# Altium footprint library RP3_V302.PcbLib: 39 footprints (part 2 of 3)
Each footprint in its own frame and in the unit in brackets; x right, y up, seen from the top. Pads: shape width x height; smd on the part's side, far side on the other; paste and mask are expansions set on the pad; w line width, h text height; cw(c..) or ccw(c..) is an arc to the next point about the centre after c.
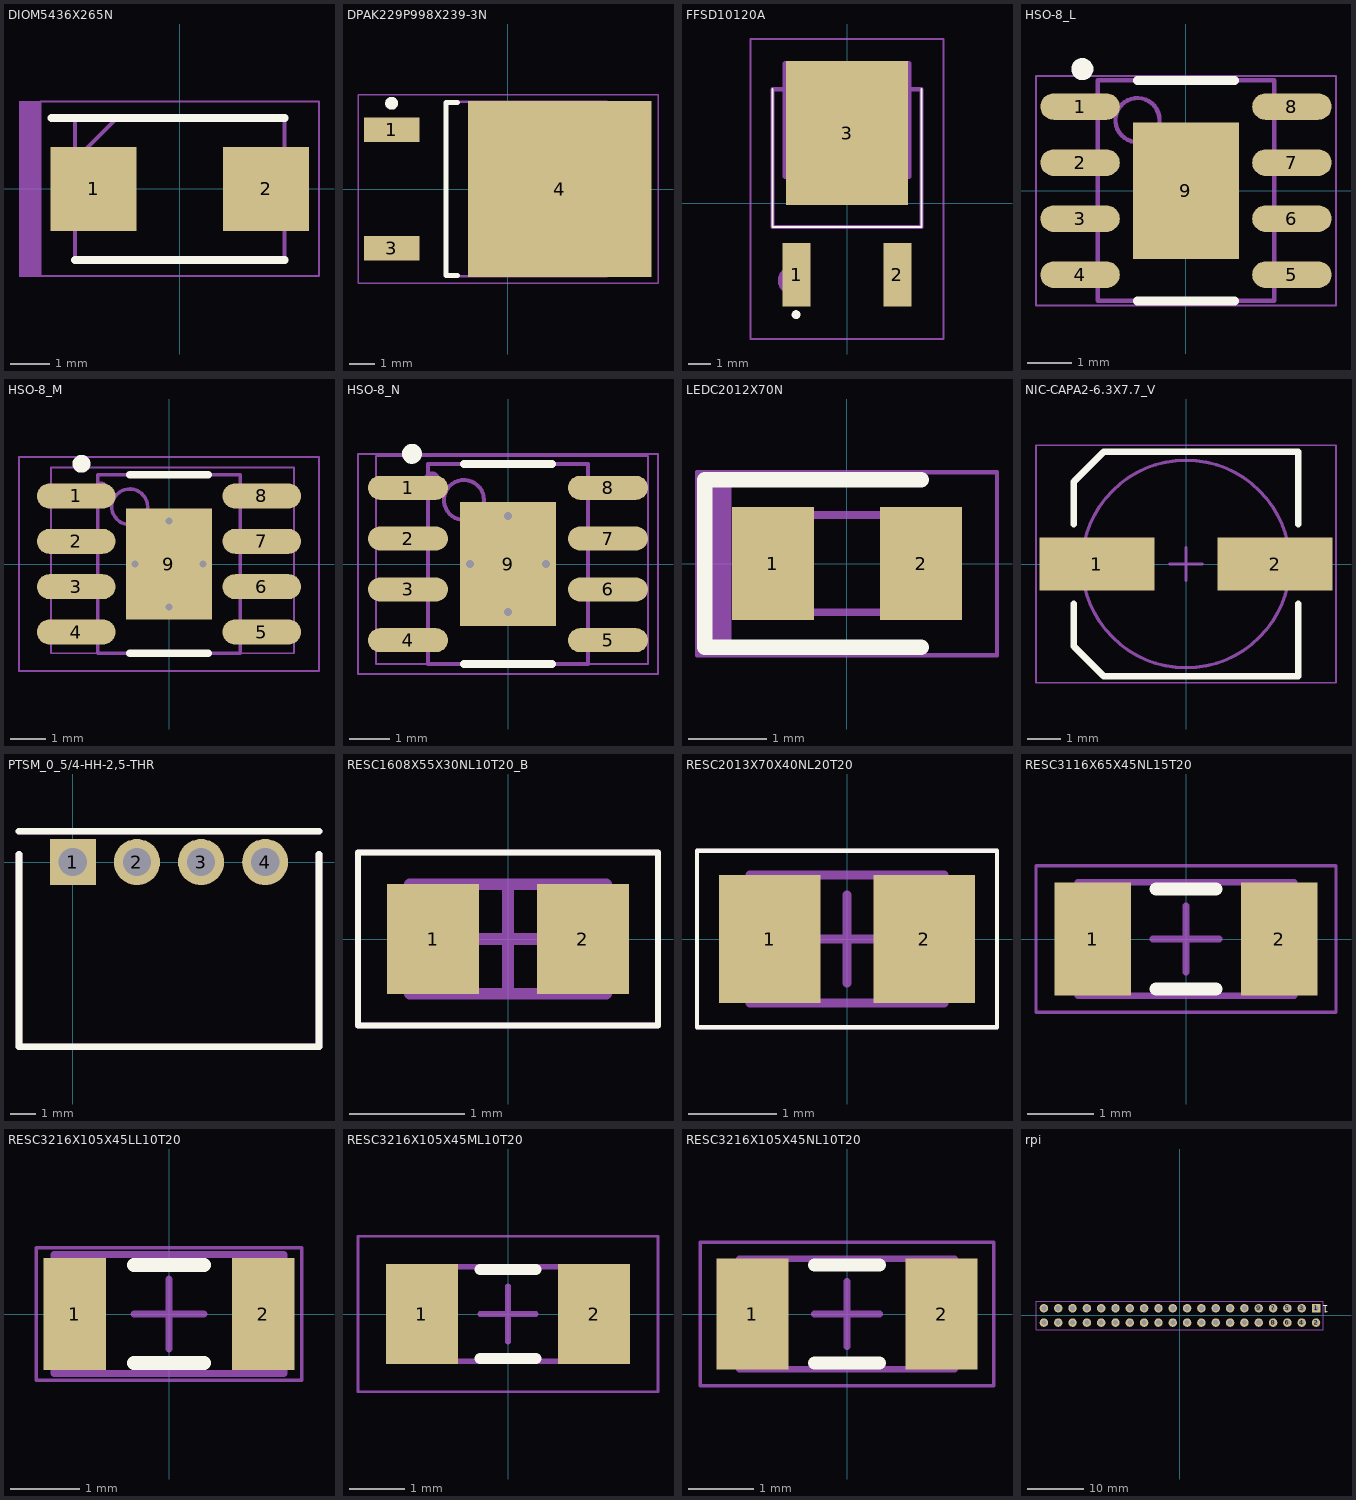
[diagram p1: the footprints below, top view; thin cyan lines are the x and y axes]

## DIOM5436X265N [mm]
pads (2):
  rect 2.2x2.15 smd: 1(-2.2,0) 2(2.2,0)
Top Overlay:
  lines w0.2: -3.275,1.812 2.675,1.812 ; -2.675,-1.812 2.675,-1.812
Mechanical 13:
  lines w0.1: -2.675,0.738 -1.6,1.812 ; -2.675,-1.812 2.675,-1.812 2.675,1.812 -2.675,1.812 -2.675,-1.812
Mechanical 15:
  lines w0.05: -3.55,-2.225 3.55,-2.225 3.55,2.225 -3.55,2.225 -3.55,-2.225
Top Assembly (Mech29):
  rectangle: -4.102,-2.25 -3.55,2.248
  lines w0.05: -3.55,-2.225 3.55,-2.225 3.55,2.225 -3.55,2.225 -3.55,-2.225
  text "'.Designator'" at -3.965,-0.292 h0.7
3D body "STPS340UY.stp": height 2.65, standoff 0, extent -2.675,-1.813 2.675,1.813

## DPAK229P998X239-3N [mm] "D-PAK, 3-Pads, Body 6.21x6.73mm (max), IPC Medium Density"
height 2.39
pads (3):
  rect 2.15x0.95 smd: 1(-4.5,2.29) 3(-4.5,-2.29)
  rect 7.1x6.8 smd: 4(2,0)
Top Overlay:
  circle w0.25: c-4.5,3.315 r0.125
  lines w0.2: -1.95,-3.35 -2.4,-3.35 -2.4,3.35 -1.95,3.35
Top Assembly:
  lines w0.1: -2.4,-3.375 3.82,-3.375 3.82,3.375 -2.4,3.375 -2.4,-3.375
Mechanical 15:
  lines w0.05: -5.8,-3.65 5.8,-3.65 5.8,3.65 -5.8,3.65 -5.8,-3.65
  lines w0.1: -0.5,0 0.5,0 ; 0,-0.5 0,0.5
3D body "DPAK229P998X239-3N.step": height 2.39, standoff 0, extent -4.625,-3.375 5.355,3.375

## FFSD10120A [mm]
pads (3):
  rect 1.25x2.85 smd: 1(-2.28,-3.24) 2(2.28,-3.24)
  rect 5.5x6.5 smd: 3(0,3.16)
Top Overlay:
  lines w0.1: -3.365,5.14 -3.365,-1.08 3.365,-1.08 3.365,5.14
  lines w0.2: -2.4,-5.04 ccw(c-2.3,-5.04) -2.2,-5.04 ccw(c-2.3,-5.04) -2.4,-5.04
Mechanical 13:
  lines w0.2: -3.365,-1.08 3.365,-1.08 3.365,5.14 -3.365,5.14 -3.365,-1.08
Mechanical 15:
  lines w0.1: -4.365,-6.14 4.365,-6.14 4.365,7.41 -4.365,7.41 -4.365,-6.14
Top Assembly (Mech29):
  circle w0.254: c-2.5,-3.5 r0.5
  lines w0.1: -4.365,-6.14 4.365,-6.14 4.365,7.41 -4.365,7.41 -4.365,-6.14
  lines w0.254: -2.794,1.206 2.794,1.206 2.794,6.294 -2.794,6.294 -2.794,1.206
  text "'.Designator'" at -3.4,-0.167 h0.7
3D body "DPAK229P998X239-3N.step": height 2.39, standoff 0, extent -3.375,-4.285 3.375,5.695

## HSO-8_L [mm] "SOIC, 8-Leads, Body 4.9x3.9mm, Pitch 1.27mm, Thermal Pad, IPC High Density"
height 1.75
pads (9):
  oval 1.8x0.6 smd: 1(-2.4,1.905) 2(-2.4,0.635) 3(-2.4,-0.635) 4(-2.4,-1.905) 5(2.4,-1.905) 6(2.4,-0.635) 7(2.4,0.635) 8(2.4,1.905)
  rect 2.4x3.1 smd paste-1.2: 9(0,0)
Top Overlay:
  circle w0.25: c-2.35,2.755 r0.125
  lines w0.2: -1.1,-2.5 1.1,-2.5 ; -1.1,2.5 1.1,2.5
Top Paste:
  rectangle: 0.1,0.1 1.1,1.45
  region: -0.1,1.45 -1.1,1.45 -1.1,0.1 -0.1,0.1
  region: -0.1,-0.1 -1.1,-0.1 -1.1,-1.45 -0.1,-1.45
  rectangle: 0.1,-1.45 1.1,-0.1
Mechanical 13:
  circle w0.1: c-1.1,1.6 r0.5
  lines w0.1: -2,-2.5 2,-2.5 2,2.5 -2,2.5 -2,-2.5
Mechanical 15:
  lines w0.05: -3.4,-2.6 3.4,-2.6 3.4,2.6 -3.4,2.6 -3.4,-2.6
  lines w0.1: -0.5,0 0.5,0 ; 0,-0.5 0,0.5
Top Assembly (Mech29):
  circle w0.254: c-2,2 r0.081
  lines w0.05: -3.4,-2.6 3.4,-2.6 3.4,2.6 -3.4,2.6 -3.4,-2.6
  text "'.Designator'" at -4.016,-0.244 h0.7
3D body: height 1.75, standoff 0, extent -2,-2.5 2,2.5

## HSO-8_M [mm] "SOIC, 8-Leads, Body 4.9x3.9mm, Pitch 1.27mm, Thermal Pad, IPC Low Density"
height 1.75
pads (9):
  oval 2.2x0.7 smd: 1(-2.6,1.905) 2(-2.6,0.635) 3(-2.6,-0.635) 4(-2.6,-1.905) 5(2.6,-1.905) 6(2.6,-0.635) 7(2.6,0.635) 8(2.6,1.905)
  rect 2.4x3.1 smd paste-1.2: 9(0,0)
via -0.95,0 diameter 0.5 hole 0.2
via 0,-1.2 diameter 0.5 hole 0.2
via 0,1.2 diameter 0.5 hole 0.2
via 0.95,0 diameter 0.5 hole 0.2
Top Overlay:
  circle w0.25: c-2.45,2.805 r0.125
  lines w0.2: -1.1,-2.5 1.1,-2.5 ; -1.1,2.5 1.1,2.5
Top Paste:
  rectangle: 0.1,-1.45 1.1,-0.1
  region: -0.1,-0.1 -1.1,-0.1 -1.1,-1.45 -0.1,-1.45
  region: -0.1,1.45 -1.1,1.45 -1.1,0.1 -0.1,0.1
  rectangle: 0.1,0.1 1.1,1.45
Mechanical 13:
  circle w0.1: c-1.1,1.6 r0.5
  lines w0.1: -2,-2.5 -2,2.5 2,2.5 2,-2.5 -2,-2.5
Mechanical 15:
  lines w0.05: -4.2,-3 -4.2,3 4.2,3 4.2,-3 -4.2,-3
  lines w0.1: -0.5,0 0.5,0 ; 0,-0.5 0,0.5
Top Assembly (Mech29):
  circle w0.254: c-1.9,2.1 r0.081
  lines w0.05: -3.3,-2.5 3.5,-2.5 3.5,2.7 -3.3,2.7 -3.3,-2.5
  text "'.Designator'" at -2.962,-0.52 h0.7
3D body: height 1.75, standoff 0, extent -2,-2.5 2,2.5

## HSO-8_N [mm] "SOIC, 8-Leads, Body 4.9x3.9mm, Pitch 1.27mm, Thermal Pad, IPC Medium Density"
height 1.75
pads (9):
  oval 2x0.6 smd: 1(-2.5,1.905) 2(-2.5,0.635) 3(-2.5,-0.635) 4(-2.5,-1.905) 5(2.5,-1.905) 6(2.5,-0.635) 7(2.5,0.635) 8(2.5,1.905)
  rect 2.4x3.1 smd paste-1.2: 9(0,0)
via 0.95,0 diameter 0.5 hole 0.2
via 0,1.2 diameter 0.5 hole 0.2
via 0,-1.2 diameter 0.5 hole 0.2
via -0.95,0 diameter 0.5 hole 0.2
Top Overlay:
  circle w0.25: c-2.4,2.755 r0.125
  lines w0.2: -1.1,-2.5 1.1,-2.5 ; -1.1,2.5 1.1,2.5
Top Paste:
  rectangle: 0.1,0.1 1.1,1.45
  region: -0.1,1.45 -1.1,1.45 -1.1,0.1 -0.1,0.1
  region: -0.1,-0.1 -1.1,-0.1 -1.1,-1.45 -0.1,-1.45
  rectangle: 0.1,-1.45 1.1,-0.1
Mechanical 13:
  circle w0.1: c-1.1,1.6 r0.5
  lines w0.1: -2,-2.5 2,-2.5 2,2.5 -2,2.5 -2,-2.5
Mechanical 15:
  lines w0.05: -3.75,-2.75 3.75,-2.75 3.75,2.75 -3.75,2.75 -3.75,-2.75
  lines w0.1: -0.5,0 0.5,0 ; 0,-0.5 0,0.5
Top Assembly (Mech29):
  circle w0.254: c-1.9,2.1 r0.081
  lines w0.05: -3.3,-2.5 3.5,-2.5 3.5,2.7 -3.3,2.7 -3.3,-2.5
  text "'.Designator'" at -2.962,-0.52 h0.7
3D body: height 1.75, standoff 0, extent -2,-2.5 2,2.5

## LEDC2012X70N [mm]
pads (2):
  rect 1.05x1.45 smd: 1(-0.95,0) 2(0.95,0)
Top Overlay:
  lines w0.2: 0.95,-1.075 -1.825,-1.075 -1.825,1.075 0.95,1.075
Mechanical 13:
  lines w0.1: -1,0.208 -0.583,0.625 ; -1,-0.625 1,-0.625 1,0.625 -1,0.625 -1,-0.625
Mechanical 15:
  lines w0.05: -1.925,-1.175 1.925,-1.175 1.925,1.175 -1.925,1.175 -1.925,-1.175
Top Assembly (Mech29):
  rectangle: -1.925,-1.186 -1.484,1.167
  lines w0.05: -1.925,-1.183 1.925,-1.183 1.925,1.167 -1.925,1.167 -1.925,-1.183
  text "'.Designator'" at -3.985,-0.231 h0.7
3D body "LED 0805 Base GREEN.STEP": height 0.41, standoff 0.01, extent -1,-0.625 1,0.625

## NIC-CAPA2-6.3X7.7_V [mm] "Aluminum Electrolytic Capacitor, Diameter 6.3mm, Height 8mm, Pitch 5.4mm"
height 8
pads (2):
  rect 3.5x1.6 smd: 1(-2.7,0) 2(2.7,0)
Top Overlay:
  lines w0.2: -3.4,-1.2 -3.4,-2.5 -2.5,-3.4 3.4,-3.4 3.4,-1.2 ; -3.4,1.2 -3.4,2.5 -2.5,3.4 3.4,3.4 3.4,1.2
Mechanical 13:
  circle w0.1: c0,0 r3.15
Mechanical 15:
  lines w0.05: -4.55,-3.6 -4.55,3.6 4.55,3.6 4.55,-3.6 -4.55,-3.6
  lines w0.1: -0.5,0 0.5,0 ; 0,-0.5 0,0.5
Top Assembly (Mech29):
  lines w0.05: -4.55,-3.6 -4.55,3.6 4.55,3.6 4.55,-3.6 -4.55,-3.6
  lines w0.1: -4,0 -3,0 ; -3.5,-0.5 -3.5,0.5
  text "'.Designator'" at 0.529,-7.194 h1.27
3D body: height 8, standoff 0, extent -3.144,-3.125 3.144,3.15

## PTSM_0_5/4-HH-2,5-THR [mm]
pads (4):
  rect 1.8x1.8 hole 1.1: 1(0,0)
  round 1.8 hole 1.1: 2(2.5,0) 3(5,0) 4(7.5,0)
Top Overlay:
  lines w0.254: -2.1,0.3 -2.1,-7.2 9.6,-7.2 9.6,0.3 ; -2.1,1.2 9.6,1.2
Top Assembly (Mech29):
  circle w0.254: c0,0 r0.5
  lines w0.254: -2.1,0.3 -2.1,-7.2 9.6,-7.2 9.6,0.3 ; -2.1,1.2 9.6,1.2
  text "'.Designator'" at -0.4,-3.977 h1.27
3D body "1814867.STEP": height 5.1, standoff -2.4, extent -2.1,-7.2 9.6,0.55

## RESC1608X55X30NL10T20_B [mm] "Chip Resistor, 2-Leads, Body 1.7x0.95mm, IPC Medium Density"
height 0.55
pads (2):
  rect 0.8x0.95 smd: 1(-0.65,0) 2(0.65,0)
Top Overlay:
  lines w0.05: -1.3,-0.75 1.3,-0.75 1.3,0.75 -1.3,0.75 -1.3,-0.75
Mechanical 13:
  lines w0.1: -0.85,-0.475 0.85,-0.475 0.85,0.475 -0.85,0.475 -0.85,-0.475
Mechanical 15:
  lines w0.05: -1.3,-0.75 1.3,-0.75 1.3,0.75 -1.3,0.75 -1.3,-0.75
  lines w0.1: -0.475,0 0.475,0 ; 0,-0.475 0,0.475
Top Assembly (Mech29):
  lines w0.05: -1.3,-0.75 1.3,-0.75 1.3,0.75 -1.3,0.75 -1.3,-0.75
  text "'.Designator'" at -3.965,-0.292 h0.7
3D body "RESC1608X06N.step": height 0.55, standoff 0, extent -0.85,-0.475 0.85,0.475

## RESC2013X70X40NL20T20 [mm] "Chip Resistor, 2-Leads, Body 2.00x1.25mm, IPC Medium Density"
height 0.7
pads (2):
  rect 1.15x1.45 smd: 1(-0.875,0) 2(0.875,0)
Top Overlay:
  lines w0.05: -1.7,-1 -1.7,1 1.7,1 1.7,-1 -1.7,-1
Mechanical 13:
  lines w0.1: -1.1,-0.725 -1.1,0.725 1.1,0.725 1.1,-0.725 -1.1,-0.725
Mechanical 15:
  lines w0.05: -1.7,-1 -1.7,1 1.7,1 1.7,-1 -1.7,-1
  lines w0.1: -0.5,0 0.5,0 ; 0,-0.5 0,0.5
Top Assembly (Mech29):
  lines w0.05: -1.7,-1 -1.7,1 1.7,1 1.7,-1 -1.7,-1
  text "'.Designator'" at -3.965,-0.292 h0.7
3D body: height 0.7, standoff 0, extent -0.7,-0.725 0.7,0.725
3D body: height 0.7, standoff 0, extent -1.1,-0.725 -0.7,0.725
3D body: height 0.7, standoff 0, extent 0.7,-0.725 1.1,0.725

## RESC3116X65X45NL15T20 [mm] "Chip Resistor, 2-Leads, Body 3.25x1.7mm, IPC Medium Density"
height 0.65
pads (2):
  rect 1.15x1.7 smd: 1(-1.4,0) 2(1.4,0)
Top Overlay:
  lines w0.2: -0.45,-0.75 0.45,-0.75 ; -0.45,0.75 0.45,0.75
Mechanical 13:
  lines w0.1: -1.625,-0.85 1.625,-0.85 1.625,0.85 -1.625,0.85 -1.625,-0.85
Mechanical 15:
  lines w0.05: -2.25,-1.1 2.25,-1.1 2.25,1.1 -2.25,1.1 -2.25,-1.1
  lines w0.1: -0.5,0 0.5,0 ; 0,-0.5 0,0.5
Top Assembly (Mech29):
  lines w0.05: -2.25,-1.1 2.25,-1.1 2.25,1.1 -2.25,1.1 -2.25,-1.1
  text "'.Designator'" at -3.965,-0.292 h0.7
3D body "RESC3116X06N.step": height 0.65, standoff 0, extent -1.625,-0.85 1.625,0.85

## RESC3216X105X45LL10T20 [mm] "Chip Resistor, 2-Leads, Body 3.20x1.60mm, IPC High Density"
height 1.05
pads (2):
  rect 0.9x1.6 smd: 1(-1.35,0) 2(1.35,0)
Top Overlay:
  lines w0.2: -0.5,-0.7 0.5,-0.7 ; -0.5,0.7 0.5,0.7
Mechanical 13:
  lines w0.1: -1.65,-0.85 1.65,-0.85 1.65,0.85 -1.65,0.85 -1.65,-0.85
Mechanical 15:
  lines w0.05: -1.9,-0.95 1.9,-0.95 1.9,0.95 -1.9,0.95 -1.9,-0.95
  lines w0.1: -0.5,0 0.5,0 ; 0,-0.5 0,0.5
Top Assembly (Mech29):
  lines w0.05: -1.9,-0.95 1.9,-0.95 1.9,0.95 -1.9,0.95 -1.9,-0.95
  text "'.Designator'" at -3.965,-0.292 h0.7
3D body: height 1.05, standoff 0, extent 1.2,-0.85 1.65,0.85
3D body: height 1.05, standoff 0, extent -1.65,-0.85 -1.2,0.85
3D body: height 1.05, standoff 0, extent -1.2,-0.85 1.2,0.85

## RESC3216X105X45ML10T20 [mm] "Chip Resistor, 2-Leads, Body 3.20x1.60mm, IPC Low Density"
height 1.05
pads (2):
  rect 1.3x1.8 smd: 1(-1.55,0) 2(1.55,0)
Top Overlay:
  lines w0.2: -0.5,-0.8 0.5,-0.8 ; -0.5,0.8 0.5,0.8
Mechanical 13:
  lines w0.1: -1.65,-0.85 1.65,-0.85 1.65,0.85 -1.65,0.85 -1.65,-0.85
Mechanical 15:
  lines w0.05: -2.7,-1.4 2.7,-1.4 2.7,1.4 -2.7,1.4 -2.7,-1.4
  lines w0.1: -0.5,0 0.5,0 ; 0,-0.5 0,0.5
Top Assembly (Mech29):
  lines w0.05: -2.7,-1.4 2.7,-1.4 2.7,1.4 -2.7,1.4 -2.7,-1.4
  text "'.Designator'" at -3.965,-0.292 h0.7
3D body: height 1.05, standoff 0, extent 1.2,-0.85 1.65,0.85
3D body: height 1.05, standoff 0, extent -1.65,-0.85 -1.2,0.85
3D body: height 1.05, standoff 0, extent -1.2,-0.85 1.2,0.85

## RESC3216X105X45NL10T20 [mm] "Chip Resistor, 2-Leads, Body 3.20x1.60mm, IPC Medium Density"
height 1.05
pads (2):
  rect 1.1x1.7 smd: 1(-1.45,0) 2(1.45,0)
Top Overlay:
  lines w0.2: -0.5,-0.75 0.5,-0.75 ; -0.5,0.75 0.5,0.75
Mechanical 13:
  lines w0.1: -1.65,-0.85 1.65,-0.85 1.65,0.85 -1.65,0.85 -1.65,-0.85
Mechanical 15:
  lines w0.05: -2.25,-1.1 2.25,-1.1 2.25,1.1 -2.25,1.1 -2.25,-1.1
  lines w0.1: -0.5,0 0.5,0 ; 0,-0.5 0,0.5
Top Assembly (Mech29):
  lines w0.05: -2.25,-1.1 2.25,-1.1 2.25,1.1 -2.25,1.1 -2.25,-1.1
  text "'.Designator'" at -3.965,-0.292 h0.7
3D body: height 1.05, standoff 0, extent 1.2,-0.85 1.65,0.85
3D body: height 1.05, standoff 0, extent -1.65,-0.85 -1.2,0.85
3D body: height 1.05, standoff 0, extent -1.2,-0.85 1.2,0.85

## rpi [mm]
pads (40):
  rect 1.5x1.5 hole 0.9: 1(24.13,1.27)
  round 1.5 hole 0.9: 2(24.13,-1.27) 3(21.59,1.27) 4(21.59,-1.27) 5(19.05,1.27) 6(19.05,-1.27) 7(16.51,1.27) 8(16.51,-1.27) 9(13.97,1.27) 10(13.97,-1.27) 11(11.43,1.27) 12(11.43,-1.27) 13(8.89,1.27) 14(8.89,-1.27) 15(6.35,1.27) 16(6.35,-1.27) 17(3.81,1.27) 18(3.81,-1.27) 19(1.27,1.27) 20(1.27,-1.27) 21(-1.27,1.27) 22(-1.27,-1.27) 23(-3.81,1.27) 24(-3.81,-1.27) 25(-6.35,1.27) 26(-6.35,-1.27) 27(-8.89,1.27) 28(-8.89,-1.27) 29(-11.43,1.27) 30(-11.43,-1.27) 31(-13.97,1.27) 32(-13.97,-1.27) 33(-16.51,1.27) 34(-16.51,-1.27) 35(-19.05,1.27) 36(-19.05,-1.27) 37(-21.59,1.27) 38(-21.59,-1.27) 39(-24.13,1.27) 40(-24.13,-1.27)
Top Overlay:
  text "1" at 26.4,1.775 h1.27
Bottom Overlay:
  lines w0.2: -25.527,-2.54 -25.527,2.54 25.4,2.54 25.4,-2.54 -25.527,-2.54
Bottom Assembly (Mech30):
  circle w0.254: c24.164,1.252 r0.5
  lines w0.2: -25.527,-2.54 -25.527,2.54 25.4,2.54 25.4,-2.54 -25.527,-2.54
  text "'.Designator'" at 10.246,0.823 h1.27
3D body "female_header_a-bl254-dg-z32d.stp": height 8.5, standoff -3.2, extent -15.365,-2.627 25.525,2.373
3D body "female_header_a-bl254-dg-z32d.stp": height 8.5, standoff -3.2, extent -25.525,-2.625 15.365,2.375